# Altium schematic symbol library FH12-40S-0.5SH_55_.SchLib: 1 symbol
Pins are listed as number, name and electrical type; pins without a type are passive.

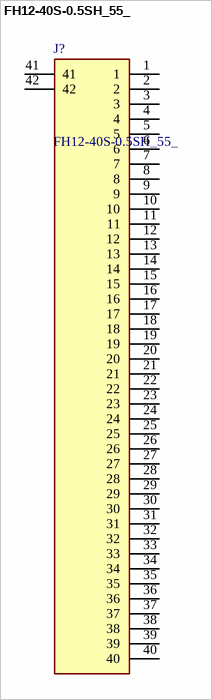
[diagram p0: symbol FH12-40S-0.5SH_55_]

## FH12-40S-0.5SH_55_
designator J?
FFC,0.5mm Pitch,Bottom Contact,40way Hirose FH12 Series 0.5mm Pitch 40 Way 1 Row Right Angle SMT Female FPC Connector, Gold Plated Contacts; Manufacturer_Part_Number: FH12-40S-0.5SH(55); Geometry.Height: 2mm; Mouser Part Number: 798-FH12-40S-0.5SH55; Mouser Price/Stock: https://www.mouser.co.uk/ProductDetail/Hirose-Connector/FH12-40S-0.5SH55?qs=Ux3WWAnHpjCB5TtHwQqTgA%3D%3D; Manufacturer_Name: Hirose; Datasheet Link: https://datasheet.datasheetarchive.com/originals/distributors/SFDatasheet-1/sf-00023459.pdf
footprint FH1240S05SH55
pins: 1, 2, 3, 4, 5, 6, 7, 8, 9, 10, 11, 12, 13, 14, 15, 16, 17, 18, 19, 20, 21, 22, 23, 24, 25, 26, 27, 28, 29, 30, 31, 32, 33, 34, 35, 36, 37, 38, 39, 40, 41, 42